# Altium schematic symbol library LREG_3T_5pin.SchLib: 1 symbol
Pins are listed as number, name and electrical type; pins without a type are passive.

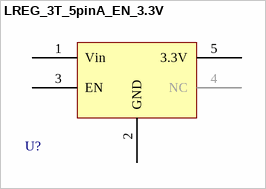
[diagram p0: symbol LREG_3T_5pinA_EN_3.3V]

## LREG_3T_5pinA_EN_3.3V
designator U?  (value not drawn)
pins: 1 Vin (power), 2 GND, 3 EN, 4 NC, 5 3.3V (power)